# Altium footprint library RWSComponents.PcbLib: 3 footprints
Each footprint in its own frame and in the unit in brackets; x right, y up, seen from the top. Pads: shape width x height; smd on the part's side, far side on the other; paste and mask are expansions set on the pad; w line width, h text height; cw(c..) or ccw(c..) is an arc to the next point about the centre after c.
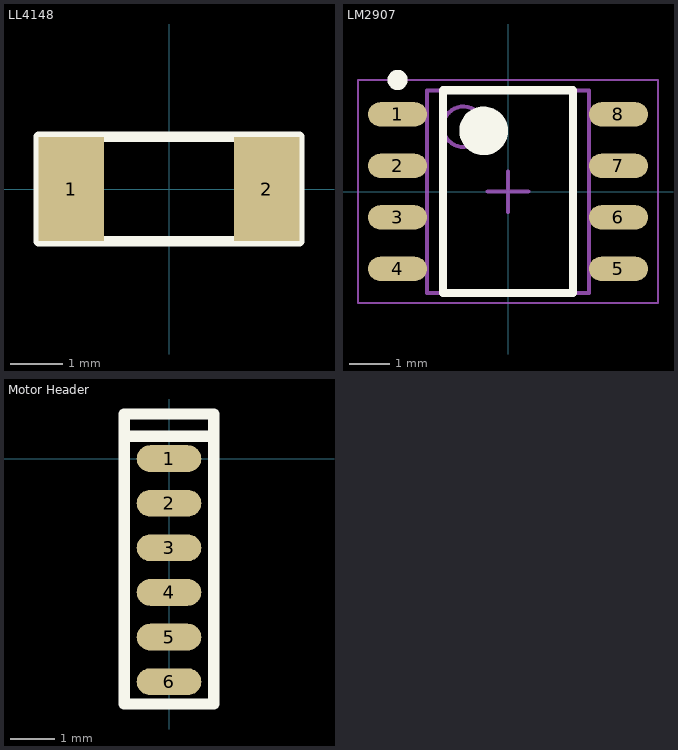
[diagram p0: the footprints below, top view; thin cyan lines are the x and y axes]

## LL4148 [mm] "Signal Diode"
pads (2):
  rect 1.25x2 smd: 1(-1.875,0) 2(1.875,0)
Top Overlay:
  lines w0.2: -2.5,-1 -2.5,-0.2 -2.5,1 2.5,1 2.5,-1 -2.5,-1

## LM2907 [mm] "Frequency to Voltage Converter"
height 1.75
pads (8):
  oval 1.45x0.6 smd: 1(-2.725,1.905) 2(-2.725,0.635) 3(-2.725,-0.635) 4(-2.725,-1.905) 5(2.725,-1.905) 6(2.725,-0.635) 7(2.725,0.635) 8(2.725,1.905)
Top Overlay:
  circle w0.25: c-2.725,2.755 r0.125
  circle w0.6: c-0.6,1.5 r0.3
  lines w0.2: -1.6,-2.5 -1.6,2.5 1.6,2.5 1.6,-2.5 -1.6,-2.5
Mechanical 13:
  circle w0.1: c-1.1,1.6 r0.5
  lines w0.1: -2,-2.5 -2,2.5 2,2.5 2,-2.5 -2,-2.5
Mechanical 15:
  lines w0.05: -3.7,-2.75 -3.7,2.75 3.7,2.75 3.7,-2.75 -3.7,-2.75
  lines w0.1: -0.5,0 0.5,0 ; 0,-0.5 0,0.5
3D body "LM2907.step": height 1.75, standoff 0, extent -3,-2.5 3,2.5

## Motor Header [mm]
pads (6):
  oval 1.45x0.6 smd: 1(0,0) 2(0,-1) 3(0,-2) 4(0,-3) 5(0,-4) 6(0,-5)
Top Overlay:
  lines w0.254: -1,0.5 1,0.5 ; -1,-5.5 1,-5.5 1,1 -1,1 -1,-5.5